# EAGLE library part TLE2301 (library newchips)
TI EXCALIBUR 3-STATE-OUTPUT WIDE-BANDWIDTH POWER OPERATIONAL AMPLIFIER
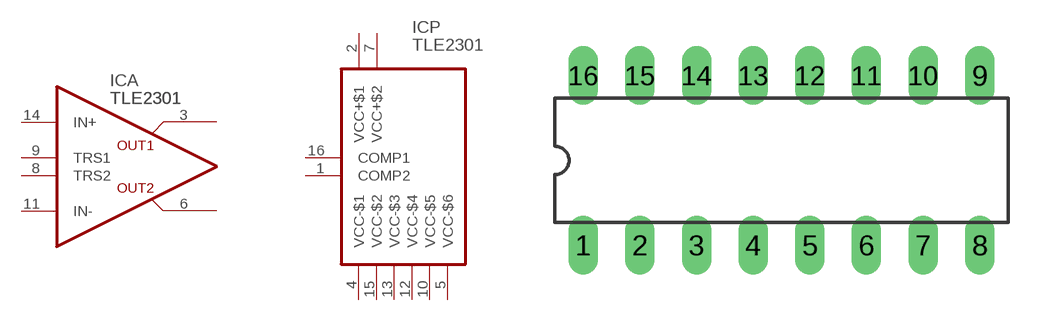
[diagram p15: symbol with the pads of DIP16; footprint DIP16]

Designator prefix IC; gates A=TLE2301 P=TLE2301_2

## TLE2301  [DIP16]
1  P:COMP2  pas
2  P:VCC+$1  pwr
3  A:OUT1  hiz
4  P:VCC-$1  pwr
5  P:VCC-$6  pwr
6  A:OUT2  hiz
7  P:VCC+$2  pwr
8  A:TRS2  hiz
9  A:TRS1  hiz
10  P:VCC-$5  pwr
11  A:IN-  in
12  P:VCC-$4  pwr
13  P:VCC-$3  pwr
14  A:IN+  in
15  P:VCC-$2  pwr
16  P:COMP1  pas

## Footprint DIP16 (pad centres in mm)
drill 0.813 long: 1 -8.89,-3.81; 2 -6.35,-3.81; 3 -3.81,-3.81; 4 -1.27,-3.81; 5 1.27,-3.81; 6 3.81,-3.81; 7 6.35,-3.81; 8 8.89,-3.81; 9 8.89,3.81; 10 6.35,3.81; 11 3.81,3.81; 12 1.27,3.81; 13 -1.27,3.81; 14 -3.81,3.81; 15 -6.35,3.81; 16 -8.89,3.81